# Altium schematic symbol library STM32L031_TSSOP20_Dev_Board.SchLib: 23 symbols
Pins are listed as number, name and electrical type; pins without a type are passive.

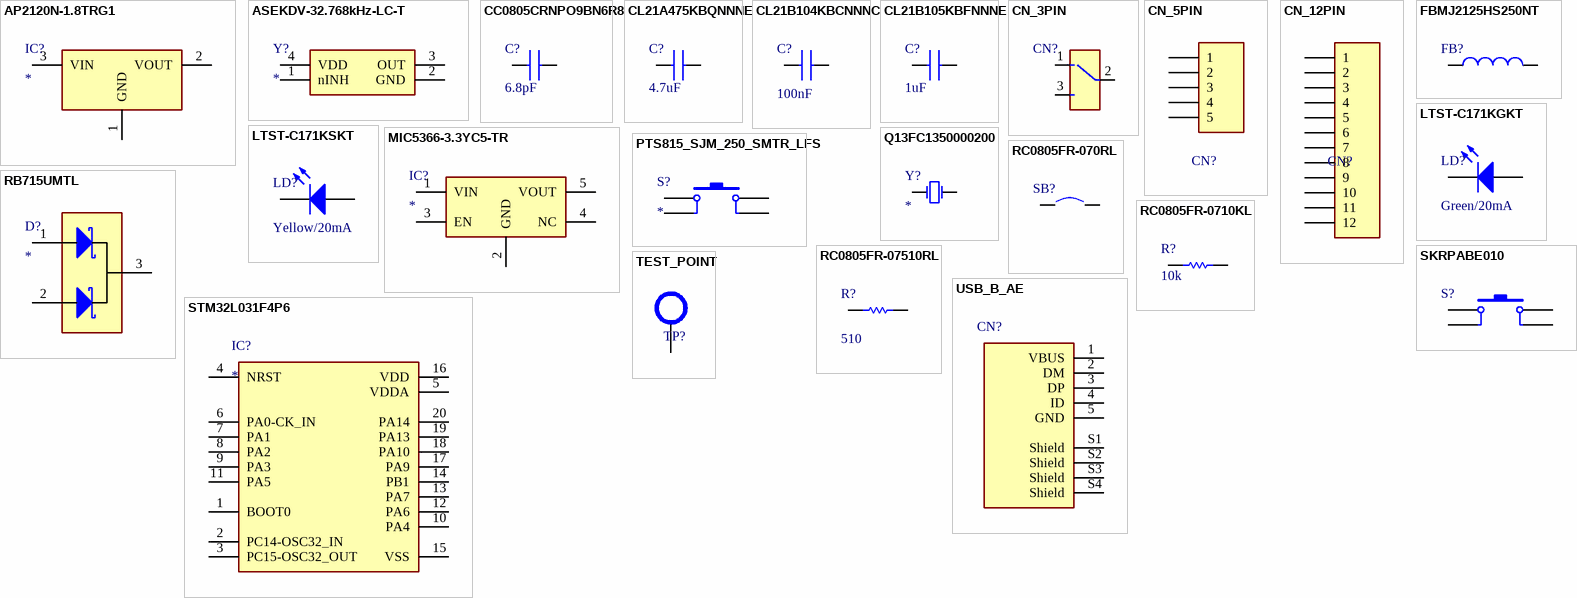
[diagram p0: symbols AP2120N-1.8TRG1 to USB_B_AE]

## AP2120N-1.8TRG1
designator IC?
LDO; Manufacturer_Name: Diodes Inc.; Manufacturer_Part_Number: AP2120N-1.8TRG1; Value: 1.8V/150mA; Datasheet Link: https://datasheet.datasheetarchive.com/originals/distributors/Datasheets_SAMA/eefff3041187ea13496cd4a0771f8fec.pdf; Height: 1.1mm; Mouser Part Number: 621-AP2120N-1.8TRG1; Mouser Price/Stock: https://www.mouser.co.uk/ProductDetail/Diodes-Incorporated/AP2120N-18TRG1?qs=x6A8l6qLYDC3T4tUK6BUJA%3D%3D; Arrow Part Number: AP2120N-1.8TRG1; Arrow Price/Stock: https://www.arrow.com/en/products/ap2120n-1.8trg1/diodes-incorporated
footprint SOT95P230X110-3N
pins: 1 GND (power), 2 VOUT, 3 VIN

## ASEKDV-32.768kHz-LC-T
designator Y?
Crystal or Oscillator; Manufacturer_Name: ABRACON; Manufacturer_Part_Number: ASEKDV-32.768kHz-LC-T; Value: 32.768kHz; Datasheet Link: https://www.mouser.fr/datasheet/2/3/ABRC_S_A0012625913_1-2519507.pdf; Height: 1.2mm; Mouser Part Number: 815-ASEKDV32768KHLCT
footprint ASEKDV-32.768kHz-LC-T
pins: 1 nINH, 2 GND, 3 OUT, 4 VDD

## CC0805CRNPO9BN6R8
designator C?  value 6.8pF  (hidden comment: *)
Capacitor; Manufacturer_Name: YAGEO (PHYCOMP); Manufacturer_Part_Number: CC0805CRNPO9BN6R8; Datasheet Link: https://componentsearchengine.com/Datasheets/1/CC0805CRNPO9BN6R8.pdf; Height: 0.7mm; Mouser Part Number: 603-CC805CRNPO9BN6R8; Mouser Price/Stock: https://www.mouser.co.uk/ProductDetail/YAGEO/CC0805CRNPO9BN6R8?qs=5q%252BqlK8CmJQXpKtionjueA%3D%3D
footprint CAPC2012X94N
pins: 1, 2

## CL21A475KBQNNNE
designator C?  value 4.7uF  (hidden comment: *)
Capacitor; Manufacturer_Name: Samsung Electro-Mechanics; Manufacturer_Part_Number: CL21A475KBQNNNE; Datasheet Link: https://www.mouser.fr/datasheet/2/585/MLCC-1837944.pdf; Height: 1.35mm; Mouser Part Number: 187-CL21A475KBQNNNE
footprint CAPC2012X135N
pins: 1, 2

## CL21B104KBCNNNC
designator C?  value 100nF  (hidden comment: *)
Capacitor; Manufacturer_Name: Samsung Electro-Mechanics; Manufacturer_Part_Number: CL21B104KBCNNNC; Datasheet Link: https://datasheet.datasheetarchive.com/originals/distributors/Datasheets_SAMA/86a3eaf0882763ef32124d5901f9b833.pdf; Height: 0.95mm; Mouser Part Number: 187-CL21B104KBCNNNC; Mouser Price/Stock: https://www.mouser.co.uk/ProductDetail/Samsung-Electro-Mechanics/CL21B104KBCNNNC?qs=349EhDEZ59pEfpnm5yBEmQ%3D%3D; Arrow Part Number: CL21B104KBCNNNC; Arrow Price/Stock: https://www.arrow.com/en/products/cl21b104kbcnnnc/samsung-electro-mechanics?region=europe
footprint CAPC2012X94N
pins: 1, 2

## CL21B105KBFNNNE
designator C?  value 1uF  (hidden comment: *)
Capacitor; Manufacturer_Name: Samsung Electro-Mechanics; Manufacturer_Part_Number: CL21B105KBFNNNE; Datasheet Link: https://componentsearchengine.com/Datasheets/2/CL21B105KBFNNNE.pdf; Height: 1.35mm; Mouser Part Number: 187-CL21B105KBFNNNE; Mouser Price/Stock: https://www.mouser.co.uk/ProductDetail/Samsung-Electro-Mechanics/CL21B105KBFNNNE?qs=yOVawPpwOwmddQEBPU6Y9A%3D%3D; Arrow Part Number: CL21B105KBFNNNE; Arrow Price/Stock: https://www.arrow.com/en/products/cl21b105kbfnnne/samsung-electro-mechanics?region=europe
footprint CAPC2012X135N
pins: 1, 2

## CN_3PIN
designator CN?  (value not drawn)
Connector
footprint CN_3PIN (Connector; Edge; 22 Position)
pins: 1, 2, 3

## CN_5PIN
designator CN?  (value not drawn)
Connector
footprint CN_5PIN (Connector; Edge; 22 Position)
pins: 1, 2, 3, 4, 5

## CN_12PIN
designator CN?  (value not drawn)
Connector
footprint CN_12PIN (Connector; Edge; 22 Position)
pins: 1, 2, 3, 4, 5, 6, 7, 8, 9, 10, 11, 12

## FBMJ2125HS250NT
designator FB?  (value not drawn)
Ferrite Bead; Manufacturer_Name: TAIYO YUDEN; Manufacturer_Part_Number: FBMJ2125HS250NT; Value: 25Ohms/4mOhms; Datasheet Link: https://mouser.componentsearchengine.com/Datasheets/1/FBMJ2125HS250NT.pdf; Height: 1.05mm; Mouser Part Number: 963-FBMJ2125HS250NT; Mouser Price/Stock: https://www.mouser.co.uk/ProductDetail/Taiyo-Yuden/FBMJ2125HS250NT?qs=I6KAKw0tg2w%2F7qNkMvc%2FCQ%3D%3D; Arrow Part Number: FBMJ2125HS250NT; Arrow Price/Stock: https://www.arrow.com/en/products/fbmj2125hs250nt/taiyo-yuden
footprint BEADC2012X105N
pins: 1, 2

## LTST-C171KGKT
designator LD?  value Green/20mA  (hidden comment: *)
LED; Manufacturer_Name: Lite-On; Manufacturer_Part_Number: LTST-C171KGKT; Datasheet Link: https://optoelectronics.liteon.com/upload/download/DS22-2000-118/LTST-C171KGKT.pdf; Height: 0.9mm; Mouser Part Number: 859-LTST-C171KGKT; Mouser Price/Stock: https://www.mouser.co.uk/ProductDetail/Lite-On/LTST-C171KGKT?qs=j1zysehuyChA38z%2F%252BFfUSw%3D%3D; Arrow Part Number: LTST-C171KGKT; Arrow Price/Stock: https://www.arrow.com/en/products/ltst-c171kgkt/lite-on-technology?region=nac
footprint LEDC2012X85N_G
pins: 1 K, 2 A

## LTST-C171KSKT
designator LD?  value Yellow/20mA  (hidden comment: *)
LED; Manufacturer_Name: Lite-On; Manufacturer_Part_Number: LTST-C171KSKT; Datasheet Link: https://componentsearchengine.com/Datasheets/1/LTST-C171KSKT.pdf; Height: 0.9mm; Mouser Part Number: 859-LTST-C171KSKT; Mouser Price/Stock: https://www.mouser.co.uk/ProductDetail/Lite-On/LTST-C171KSKT?qs=llMtm9xcdM0CwR1bByTaUQ%3D%3D; Arrow Part Number: LTST-C171KSKT; Arrow Price/Stock: https://www.arrow.com/en/products/ltst-c171kskt/lite-on-technology?region=nac
footprint LEDC2012X85N_Y
pins: 1 K, 2 A

## MIC5366-3.3YC5-TR
designator IC?
LDO; Manufacturer_Name: Microchip; Manufacturer_Part_Number: MIC5366-3.3YC5-TR; Value: 3.3V/150mA; Datasheet Link: https://www.mouser.fr/datasheet/2/268/MIC5365_6_High_Performance_Single_150mA_LDO_DS2000-2826882.pdf; Height: 1.1mm; Mouser Part Number: 998-MIC5366-3.3YC5TR; Mouser Price/Stock: https://www.mouser.co.uk/ProductDetail/Microchip-Technology-Micrel/MIC5365-33YC5-TR?qs=U6T8BxXiZAXvJj%252BPZ%252B301w%3D%3D; Arrow Part Number: MIC5366-3.3YC5-TR; Arrow Price/Stock: https://www.arrow.com/en/products/mic5365-3.3yc5-tr/microchip-technology?region=nac
footprint SOT65P210X110-5N
pins: 1 VIN (power), 2 GND (power), 3 EN, 4 NC, 5 VOUT

## PTS815_SJM_250_SMTR_LFS
designator S?
Switch; Manufacturer_Name: C & K COMPONENTS; Manufacturer_Part_Number: PTS815 SJM 250 SMTR LFS; Datasheet Link: https://componentsearchengine.com/Datasheets/1/PTS815 SJM 250 SMTR LFS.pdf; Height: 2.7mm; Mouser Part Number: 611-PTS815SJM250SMTR; Mouser Price/Stock: https://www.mouser.co.uk/ProductDetail/CK/PTS815-SJM-250-SMTR-LFS?qs=ahcBuItHZ3xKWmfV%2F2E6bA%3D%3D; Arrow Part Number: PTS815 SJM 250 SMTR LFS; Arrow Price/Stock: https://www.arrow.com/en/products/pts815-sjm-250-smtr-lfs/ck
footprint PTS815SJM250SMTRLFS
pins: 1, 2, 3, 4

## Q13FC1350000200
designator Y?
Crystal; Manufacturer_Name: SEIKO EPSON; Manufacturer_Part_Number: Q13FC1350000200; Value: 32.768kHz/7pF/70kOhms; Datasheet Link: https://datasheet.lcsc.com/szlcsc/Seiko-Epson-Q13FC1350000200_C48615.pdf; Height: 0.9mm
footprint Q13FC1350000200
pins: 1, 2

## RB715UMTL
designator D?
Schottky Diode; Manufacturer_Name: ROHM Semiconductor; Manufacturer_Part_Number: RB715UMTL; Datasheet Link: http://uk.rs-online.com/web/p/products/1835297; Height: 1mm; Mouser Part Number: 755-RB715UMTL; Mouser Price/Stock: https://www.mouser.co.uk/ProductDetail/ROHM-Semiconductor/RB715UMTL?qs=HXFqYaX1Q2wTXMfu8QxCQg%3D%3D
footprint DAN217UMTL
pins: 1 K_1, 2 K_2, 3 COM_A

## RC0805FR-070RL
designator SB?  (value not drawn)
Jumper (0 ohm); Manufacturer_Name: YAGEO (PHYCOMP); Manufacturer_Part_Number: RC0805FR-070RL; Datasheet Link: https://datasheet.datasheetarchive.com/originals/distributors/Datasheets_SAMA/902f9e387b938f871d31120f5fc1d65e.pdf; Height: 0.6mm; Mouser Part Number: 603-RC0805FR-070RL; Mouser Price/Stock: https://www.mouser.co.uk/ProductDetail/YAGEO/RC0805FR-070RL?qs=fRxXYNj8ftF6kXqh1XbZJQ%3D%3D
footprint RESC2012X60N
pins: 1, 2

## RC0805FR-0710KL
designator R?  value 10k  (hidden comment: *)
Resistor; Manufacturer_Name: YAGEO (PHYCOMP); Manufacturer_Part_Number: RC0805FR-0710KL; Datasheet Link: https://datasheet.datasheetarchive.com/originals/distributors/Datasheets_SAMA/902f9e387b938f871d31120f5fc1d65e.pdf; Height: 0.6mm; Mouser Part Number: 603-RC0805FR-0710KL; Mouser Price/Stock: https://www.mouser.co.uk/ProductDetail/YAGEO/RC0805FR-0710KL?qs=7bY8808IzHq6vrU3BeiiYw%3D%3D; Arrow Part Number: RC0805FR-0710KL; Arrow Price/Stock: https://www.arrow.com/en/products/rc0805fr-0710kl/yageo?region=europe
footprint RESC2012X60N
pins: 1, 2

## RC0805FR-07510RL
designator R?  value 510  (hidden comment: *)
Resistor; Manufacturer_Name: YAGEO (PHYCOMP); Manufacturer_Part_Number: RC0805FR-07510RL; Datasheet Link: https://datasheet.datasheetarchive.com/originals/distributors/Datasheets_SAMA/902f9e387b938f871d31120f5fc1d65e.pdf; Height: 0.6mm; Mouser Part Number: 603-RC0805FR-07510RL; Mouser Price/Stock: https://www.mouser.com/Search/Refine.aspx?Keyword=603-RC0805FR-07510RL
footprint RESC2012X60N
pins: 1, 2

## SKRPABE010
designator S?  (value not drawn)
Switch; Manufacturer_Name: ALPS Electric; Manufacturer_Part_Number: SKRPABE010; Datasheet Link: https://datasheet.lcsc.com/szlcsc/ALPS-Electric-SKRPABE010_C115360.pdf; Height: 2.5mm; Mouser Part Number: 688-SKRPAB; Mouser Price/Stock: https://www.mouser.co.uk/ProductDetail/Alps-Alpine/SKRPABE010?qs=m0BA540hBPe1GpcSf%2FZ5Yw%3D%3D
footprint SKRPABE010
pins: 1, 2, 3, 4

## STM32L031F4P6
designator IC?
Integrated Circuit; Manufacturer_Name: STMicroelectronics; Manufacturer_Part_Number: STM32L031F4P6; Datasheet Link: http://www.st.com/resource/en/datasheet/stm32l031f4.pdf; Height: 1.2mm; Mouser Part Number: 511-STM32L031F4P6; Mouser Price/Stock: https://www.mouser.co.uk/ProductDetail/STMicroelectronics/STM32L031F4P6?qs=dTJS0cRn7ohU%2FRoH6ms1pg%3D%3D; Arrow Part Number: STM32L031F4P6; Arrow Price/Stock: https://www.arrow.com/en/products/stm32l031f4p6/stmicroelectronics
footprint SOP65P640X120-20N
pins: 1 BOOT0, 2 PC14-OSC32_IN, 3 PC15-OSC32_OUT, 4 NRST, 5 VDDA, 6 PA0-CK_IN, 7 PA1, 8 PA2, 9 PA3, 10 PA4, 11 PA5, 12 PA6, 13 PA7, 14 PB1, 15 VSS, 16 VDD, 17 PA9, 18 PA10, 19 PA13, 20 PA14

## TEST_POINT
designator TP?  (value not drawn)  (no BOM)
Test point
footprint TEST_POINT (Test point)
pins: TP

## USB_B_AE
designator CN?  (value not drawn)
USB connector
footprint USB_B_AE
pins: 1 VBUS, 2 DM, 3 DP, 4 ID, 5 GND, S1 Shield, S2 Shield, S3 Shield, S4 Shield